# Altium schematic symbol library MuhammetLib.SchLib: 392 symbols (part 4 of 4)
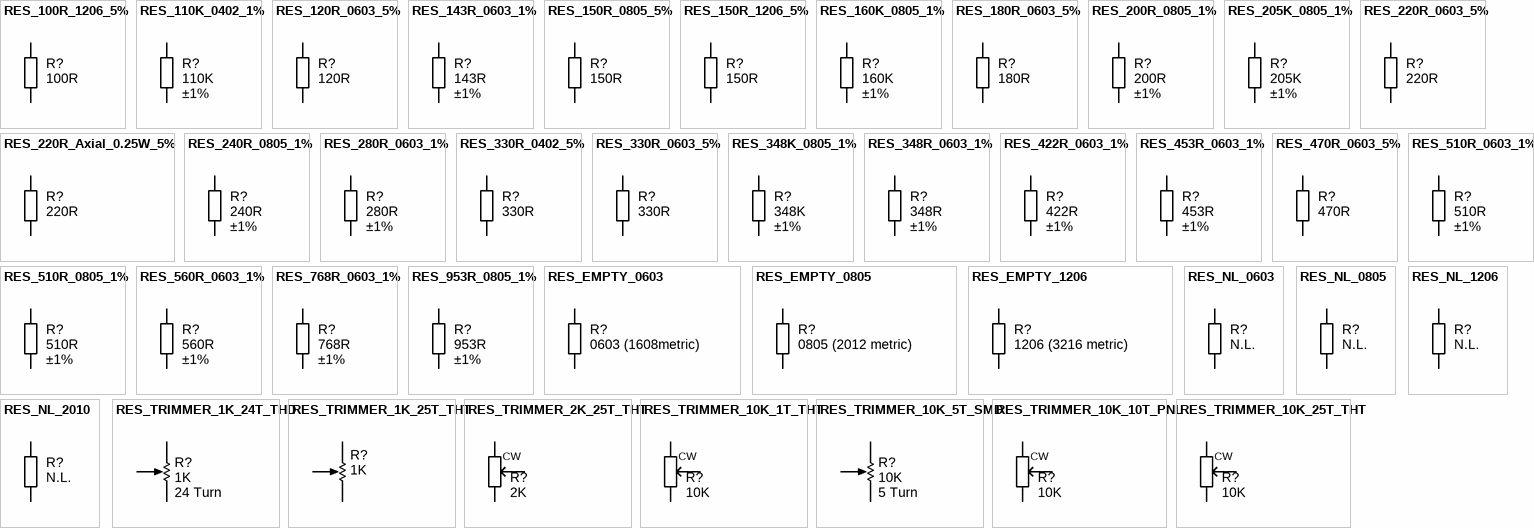
[diagram p15: symbols RES_100R_1206_5% to RES_TRIMMER_10K_25T_THT]

## RES_150R_0805_5%
designator R?, comment value 150R  (hidden comment: Thick Film)
Resistor SMD chip 150 Ohm 0.125W 5% 0805; Manufacturer 1: Vishay/Dale; Manufacturer Part Number 1: CRCW0805150RJNEA; Ratings: 1/8W; Tolerance: ±5%; Package / Case: 0805 (2012 metric); Supplier 1: Digi-Key; Supplier Part Number 1: 541-150ACT-ND
footprint RESC2012N (Chip Resistor, Body 2.0x1.2mm, IPC Medium Density)
pins: 1, 2

## RES_150R_1206_5%
designator R?, comment value 150R  (hidden comment: Thin Film)
Resistor SMD chip 150 Ohm 0.25W 5% 1206; Manufacturer 1: Yageo; Manufacturer Part Number 1: RC1206JR-07150RL; Ratings: 1/4 W; Package / Case: 1206 (3216 Metric); Tolerance: ±5%; Material: Thin Film; Supplier 1: Digi-Key; Supplier Part Number 1: 311-150ERCT-ND; ComponentLink1URL: http://www.yageo.com/documents/recent/PYu-RC1206_51_RoHS_L_4.pdf; ComponentLink1Description: http://www.yageo.com/documents/recent/PYu-RC1206_51_RoHS_L_4.pdf
footprint RESC3216N (Chip Resistor, Body 3.2x1.6mm, 1206, IPC Medium Density)
pins: 1, 2

## RES_160K_0805_1%
designator R?, comment value 160K  Tolerance: ±1%  (hidden comment: Thick Film)
Resistor SMD chip 160k Ohm 0.125W 1% 0805; Manufacturer 1: Vishay/Dale; Manufacturer Part Number 1: CRCW0805160KFKEA; Ratings: 1/8W; Package / Case: 0805 (2012 metric); Supplier 1: Digi-Key; Supplier Part Number 1: 541-160KCCT-ND
footprint RESC2012N (Chip Resistor, Body 2.0x1.2mm, 0805, IPC Medium Density)
pins: 1, 2

## RES_180R_0603_5%
designator R?, comment value 180R  (hidden comment: Thick Film)
Resistor SMD chip 180 Ohm 0.1W 5% 0603; Manufacturer 1: Yageo; Manufacturer Part Number 1: RC0603JR-07180RL; Ratings: 1/10 W; Package / Case: 0603 (1608 metric); Tolerance: ±5%; Material: Thick Film; Supplier 1: Digi-Key; Supplier Part Number 1: 311-180GRCT-ND
footprint RESC1608N (Chip Resistor, Body 1.6x0.8mm, IPC Medium Density)
pins: 1, 2

## RES_200R_0805_1%
designator R?, comment value 200R  Tolerance: ±1%  (hidden comment: Thick Film)
Resistor SMD chip 200 Ohm 0.125W 1% 0805; Manufacturer 1: Vishay/Dale; Manufacturer Part Number 1: CRCW0805200RFKEA; Ratings: 1/8W; Package / Case: 0805 (2012 metric); Supplier 1: Digi-Key; Supplier Part Number 1: 541-200CCT-ND
footprint RESC2012N (Chip Resistor, Body 2.0x1.2mm, 0805, IPC Medium Density)
pins: 1, 2

## RES_205K_0805_1%
designator R?, comment value 205K  Tolerance: ±1%  (hidden comment: Thick Film)
Resistor SMD chip 205k Ohm 0.125W 1% 0805; Manufacturer 1: Vishay/Dale; Manufacturer Part Number 1: CRCW0805205KFKEA; Ratings: 1/8W; Package / Case: 0805 (2012 metric); Supplier 1: Digi-Key; Supplier Part Number 1: 541-205KCCT-ND
footprint RESC2012N (Chip Resistor, Body 2.0x1.2mm, 0805, IPC Medium Density)
pins: 1, 2

## RES_220R_0603_5%
designator R?, comment value 220R  (hidden comment: Thick Film)
Resistor SMD chip 220 Ohm 0.1W 5% 0603; Manufacturer 1: Yageo; Manufacturer Part Number 1: RC0603JR-07220RL; Ratings: 1/10 W; Manufacturer 2: Royal Ohm; Manufacturer Part Number 2: 0603WAJ0221; Package / Case: 0603 (1608 metric); Tolerance: ±5%; Material: Thick Film; Supplier 1: Digi-Key; Supplier Part Number 1: 311-220GRCT-ND
footprint RESC1608N (Chip Resistor, Body 1.6x0.8mm, IPC Medium Density)
pins: 1, 2

## RES_220R_Axial_0.25W_5%
designator R?, comment value 220R  (hidden comment: Carbon Film)
Resistor THD Axial 220 Ohm 0.25W 5% Carbon Film; Manufacturer 1: Yageo; Manufacturer Part Number 1: CFR-25JB-220R; Ratings: 1/4W; Tolerance: ±5%; Package / Case: Axial; Supplier 1: Digi-Key; Supplier Part Number 1: 220QBK-ND
footprint RESTH_AXIAL-0.4
pins: 1, 2

## RES_240R_0805_1%
designator R?, comment value 240R  Tolerance: ±1%  (hidden comment: Thick Film)
Resistor SMD chip 240 Ohm 0.125W 1% 0805; Manufacturer 1: Vishay/Dale; Manufacturer Part Number 1: CRCW0805240RFKEA; Ratings: 1/8W; Supplier 1: Digi-Key; Supplier Part Number 1: 541-240CCT-ND; Package / Case: 0805 (2012 metric); Material: Thick Film
footprint RESC2012N (Chip Resistor, Body 2.0x1.2mm, IPC Medium Density)
pins: 1, 2

## RES_280R_0603_1%
designator R?, comment Tolerance: ±1%  (hidden comment: 280R)
Resistor SMD chip 280 Ohm 0.1W 1% 0603; Manufacturer 1: Yageo; Manufacturer Part Number 1: RC0603FR-07280RL; Ratings: 1/10W; Package / Case: 0603 (1608 Metric); Supplier 1: Digi-Key; Supplier Part Number 1: 311-280HRCT-ND; Value: 280R
footprint RESC1608N (Chip Resistor, Body 1.6x0.8mm, 0603, IPC Medium Density)
pins: 1, 2

## RES_330R_0402_5%
designator R?, comment value 330R  (hidden comment: Thick Film)
Resistor SMD chip 330 Ohm 0.063W 5% 0402; Manufacturer 1: Yageo; Manufacturer Part Number 1: RC0402JR-07330RL; Ratings: 1/16 W; Package / Case: 0402 (1005 Metric); Tolerance: ±5%; Supplier 1: Digi-Key; Supplier Part Number 1: 311-330JRCT-ND; ComponentLink1URL: http://www.yageo.com/documents/recent/PYu-RC0402_51_RoHS_L_6.pdf; ComponentLink1Description: http://www.yageo.com/documents/recent/PYu-RC0402_51_RoHS_L_6.pdf
footprint RESC1005N (Chip Resistor, Body 1.0x0.5mm, EIA 0402, IPC Medium Density)
pins: 1, 2

## RES_330R_0603_5%
designator R?, comment value 330R  (hidden comment: Thick Film)
Resistor SMD chip 330 Ohm 0.1W 5% 0603; Manufacturer 1: Vishay Dale; Manufacturer Part Number 1: CRCW0603330RJNEA; Ratings: 1/10 W; Manufacturer 2: Yageo; Manufacturer Part Number 2: RC0603JR-07330RL; Package / Case: 0603 (1608 metric); Tolerance: ±5%; Material: Thick Film; Supplier 1: Digi-Key; Supplier Part Number 1: 541-330GCT-ND; ComponentLink1URL: http://www.vishay.com/doc?20035; ComponentLink1Description: http://www.vishay.com/doc?20035; Supplier 2: Digi-Key; Supplier Part Number 2: 311-330GRCT-ND; ComponentLink2URL: http://www.yageo.com/documents/recent/PYu-RC0603_51_RoHS_L_4.pdf; ComponentLink2Description: http://www.yageo.com/documents/recent/PYu-RC0603_51_RoHS_L_4.pdf
footprint RESC1608N (Chip Resistor, Body 1.6x0.8mm, IPC Medium Density)
pins: 1, 2

## RES_348K_0805_1%
designator R?, comment value 348K  Tolerance: ±1%  (hidden comment: Thick Film)
Resistor SMD chip 348k Ohm 0.125W 1% 0805; Manufacturer 1: Vishay/Dale; Manufacturer Part Number 1: CRCW0805348KFKEA; Ratings: 1/8W; Package / Case: 0805 (2012 metric); Supplier 1: Digi-Key; Supplier Part Number 1: 541-348KCCT-ND
footprint RESC2012N (Chip Resistor, Body 2.0x1.2mm, IPC Medium Density)
pins: 1, 2

## RES_348R_0603_1%
designator R?, comment value 348R  Tolerance: ±1%  (hidden comment: Thin Film)
Resistor SMD chip 348 Ohm 0.1W 1% 0603; Manufacturer 1: Yageo; Manufacturer Part Number 1: RC0603FR-07348RL; Ratings: 1/10 W; Package / Case: 0603 (1608 metric); Material: Thin Film; Supplier 1: Digi-Key; Supplier Part Number 1: 311-348HRCT-ND
footprint RESC1608N (Chip Resistor, Body 1.6x0.8mm, 0603, IPC Medium Density)
pins: 1, 2

## RES_422R_0603_1%
designator R?, comment value 422R  Tolerance: ±1%  (hidden comment: Thick Film)
Resistor SMD chip 422 Ohm 0.1W 1% 0603; Manufacturer 1: Yageo; Manufacturer Part Number 1: RC0603FR-07422RL; Ratings: 1/10W; Package / Case: 0603 (1608 Metric); Supplier 1: Digi-Key; Supplier Part Number 1: 311-422HRCT-ND
footprint RESC1608N (Chip Resistor, Body 1.6x0.8mm, 0603, IPC Medium Density)
pins: 1, 2

## RES_453R_0603_1%
designator R?, comment value 453R  Tolerance: ±1%  (hidden comment: Thin Film)
Resistor SMD chip 453 Ohm 0.1W 1% 0603; Manufacturer 1: Yageo; Manufacturer Part Number 1: RC0603FR-07453RL; Ratings: 1/10 W; Package / Case: 0603 (1608 metric); Material: Thin Film; Supplier 1: Digi-Key; Supplier Part Number 1: 311-453HRCT-ND
footprint RESC1608N (Chip Resistor, Body 1.6x0.8mm, 0603, IPC Medium Density)
pins: 1, 2

## RES_470R_0603_5%
designator R?, comment value 470R  (hidden comment: Thick Film)
Resistor SMD chip 470 Ohm 0.1W 5% 0603; Manufacturer 1: Vishay/Dale; Manufacturer Part Number 1: CRCW0603470RJNEA; Ratings: 1/10 W; Package / Case: 0603 (1608 metric); Tolerance: ±5%; Material: Thick Film; Supplier 1: Digi-Key; Supplier Part Number 1: 541-470GCT-ND
footprint RESC1608N (Chip Resistor, Body 1.6x0.8mm, IPC Medium Density)
pins: 1, 2

## RES_510R_0603_1%
designator R?, comment value 510R  Tolerance: ±1%  (hidden comment: Thick Film)
Resistor SMD chip 510 Ohm 0.1W 1% 0603; Manufacturer 1: Yageo; Manufacturer Part Number 1: RC0603FR-07510RL; Ratings: 1/10 W; Package / Case: 0603 (1608 Metric); Material: Thick Film; Supplier 1: Digi-Key; Supplier Part Number 1: 311-510HRCT-ND
footprint RESC1608N (Chip Resistor, Body 1.6x0.8mm, 0603, IPC Medium Density)
pins: 1, 2

## RES_510R_0805_1%
designator R?, comment value 510R  Tolerance: ±1%  (hidden comment: Thick Film)
Resistor SMD chip 510 Ohm 0.125W 1% 0805; Manufacturer 1: Yageo; Manufacturer Part Number 1: RC0805FR-07510RL; Ratings: 1/8 W; Package / Case: 0805 (2012 Metric); Material: Thick Film; Supplier 1: Digi-Key; Supplier Part Number 1: 311-510CRCT-ND
footprint RESC2012N (Chip Resistor, Body 2.0x1.2mm, 0805, IPC Medium Density)
pins: 1, 2

## RES_560R_0603_1%
designator R?, comment Tolerance: ±1%  (hidden comment: 560R)
Resistor SMD chip 560 Ohm 0.1W 1% 0603; Manufacturer 1: Yageo; Manufacturer Part Number 1: RC0603FR-07560RL; Ratings: 1/10W; Package / Case: 0603 (1608 Metric); Supplier 1: Digi-Key; Supplier Part Number 1: 311-560HRCT-ND; Value: 560R
footprint RESC1608N (Chip Resistor, Body 1.6x0.8mm, 0603, IPC Medium Density)
pins: 1, 2

## RES_768R_0603_1%
designator R?, comment value 768R  Tolerance: ±1%  (hidden comment: Thick Film)
Resistor SMD chip 768 Ohm 0.1W 1% 0603; Manufacturer 1: Yageo; Manufacturer Part Number 1: RC0603FR-07768RL; Ratings: 1/10W; Package / Case: 0603 (1608 Metric); Supplier 1: Digi-Key; Supplier Part Number 1: 311-768HRCT-ND
footprint RESC1608N (Chip Resistor, Body 1.6x0.8mm, 0603, IPC Medium Density)
pins: 1, 2

## RES_953R_0805_1%
designator R?, comment value 953R  Tolerance: ±1%  (hidden comment: Thick Film)
Resistor SMD chip 953 Ohm 0.125W 1% 0805; Manufacturer 1: Vishay/Dale; Manufacturer Part Number 1: CRCW0805953RFKEA; Ratings: 1/8W; Package / Case: 0805 (2012 metric); Supplier 1: Digi-Key; Supplier Part Number 1: 541-953CCT-ND
footprint RESC2012N (Chip Resistor, Body 2.0x1.2mm, IPC Medium Density)
pins: 1, 2

## RES_EMPTY_0603
designator R?  Package / Case: 0603 (1608metric)  (hidden comment: *)
Resistor, 08603 SMD, Empty footprint; Value: N/A
footprint RESC1608N (Chip Resistor, Body 1.6x0.8mm, 0603, IPC Medium Density)
pins: 1, 2

## RES_EMPTY_0805
designator R?  Package / Case: 0805 (2012 metric)  (hidden comment: *)
Resistor, 0805 SMD, Empty footprint; Value: N/A
footprint RESC2012N (Chip Resistor, Body 2.0x1.2mm, IPC Medium Density)
pins: 1, 2

## RES_EMPTY_1206
designator R?  Package / Case: 1206 (3216 metric)  (hidden comment: *)
Resistor, 1206 SMD, Empty footprint; Value: N/A
footprint RESC3216N (Chip Resistor, Body 3.2x1.6mm, IPC Medium Density)
pins: 1, 2

## RES_NL_0603
designator R?  value N.L.  (hidden comment: *)  (no BOM)
Resistor, SMD chip; Manufacturer 1: Royal Ohm; Ratings: 1/10 W; Tolerance: ±5%; Package / Case: 0603 (1608 metric)
footprint RESC1608N (Chip Resistor, Body 1.6x0.8mm, 0603, IPC Medium Density)
pins: 1, 2

## RES_NL_0805
designator R?  value N.L.  (hidden comment: *)  (no BOM)
Resistor, SMD chip; Manufacturer 1: Royal Ohm; Ratings: 1/10 W; Tolerance: ±5%; Package / Case: 0805 (2012 metric)
footprint RESC2012N (Chip Resistor, Body 2.0x1.2mm, 0805, IPC Medium Density)
pins: 1, 2

## RES_NL_1206
designator R?  value N.L.  (hidden comment: *)  (no BOM)
Resistor, SMD chip; Manufacturer 1: Royal Ohm; Ratings: 1/10 W; Tolerance: ±5%; Package / Case: 1206 (3216 metric)
footprint RESC3216N (Chip Resistor, Body 3.2x1.6mm, 1206, IPC Medium Density)
pins: 1, 2

## RES_NL_2010
designator R?  value N.L.  (hidden comment: *)  (no BOM)
Resistor, SMD chip; Manufacturer 1: Royal Ohm; Ratings: 1/10 W; Tolerance: ±5%; Package / Case: 2010 (5025 metric)
footprint RESC5025N (Chip Resistor, Body 5.0x2.5mm, 2010, IPC Medium Density)
pins: 1, 2

## RES_TRIMMER_1K_24T_THD
designator R?, comment 24 Turn  value 1K
Trimmer, 24-Turn, 1K; Manufacturer 1: VISHAY SPECTROL; Manufacturer Part Number 1: 64Y-102; Tolerance: 10%; Ratings: 24 turn variable cermet; Supplier 1: Newark; Supplier Part Number 1: 99K0122
footprint VishaySpectrol_64Y (VISHAY SPECTROL - 64Y - TRIMMER)
pins: 1 CCW, 2 TAP, 3 CW

## RES_TRIMMER_1K_25T_THT
designator R?, comment value 1K  (hidden comment: 25 Turn)
Trimmer, 25-Turn, 1K cermet; Manufacturer 1: Murata Electronics North America; Manufacturer Part Number 1: PV36Y102C01B00; Tolerance: 10%; Ratings: 25 turn variable cermet; Supplier 1: Digi-Key; Supplier Part Number 1: 490-2912-ND
footprint TrimPot_THT_2.54mm pitch (TRIMMER, MURATA, PV36Y)
pins: 1 CCW, 2 TAP, 3 CW

## RES_TRIMMER_2K_25T_THT
designator R?, comment value 2K  (hidden comment: 25 turns)
Trimmer THD 2K 500mW 25-turn; Manufacturer 1: Murata Electronics North America; Manufacturer Part Number 1: PV36X202C01B00; Tolerance: ±10%; Ratings: 1/2W; ±100ppm/°C; Material: Cermet; Package / Case: 10.9mm L x 5.0mm W x 10.0mm H; Supplier 1: Digi-Key; Supplier Part Number 1: 490-2899-ND
footprint TrimPot_THT_PV36X (TRIMMER, MURATA, PV36X)
pins: CCW 1, CW 3, W 2

## RES_TRIMMER_10K_1T_THT
designator R?, comment value 10K  (hidden comment: Single-turn pot)
Trimmer THD 10K 200mW Single-turn; Manufacturer 1: Bourns Inc.; Manufacturer Part Number 1: 3306F-1-103; Tolerance: ±25%; Ratings: 1/5W; Supplier 1: Digi-Key; Supplier Part Number 1: 3306F-103-ND; Material: Cermet; Package / Case: 8.10mm L x 6.81mm W x 7.62mm H
footprint POT_3306F
pins: CCW 1, CW 3, W 2

## RES_TRIMMER_10K_5T_SMD
designator R?, comment 5 Turn  value 10K
Trimmer SMD 10K 250mW 5-turn Side-adjust; Manufacturer 1: Bourns Inc.; Manufacturer Part Number 1: 3214G-1-103E; Tolerance: 10%; Ratings: 5 turn variable cermet; Number of Turns: 5; Supplier 1: Digi-Key; Supplier Part Number 1: 3214G-1-103ECT-ND
footprint TrimPot_SMD_Bourns_3214G (Bourns- 3214G - TRIMMER)
pins: 1 CCW, 2 WIPER, 3 CW

## RES_TRIMMER_10K_10T_PNL
designator R?, comment value 10K  (hidden comment: 10 turns)  (mechanical)
Trimmer panel mount 10K 2W 10-turn; Manufacturer: Bourns Inc.; Manufacturer Part Number: 3590S-2-103L; Tolerance: ±5%; Ratings: 2W; ±50ppm/°C; Material: Wirewound; Supplier 1: Digi-Key; Supplier Part Number 1: 3590S-2-103L-ND; ComponentLink1URL: http://www.bourns.com/data/global/pdfs/3590.pdf; ComponentLink1Description: 3590 Series Datasheet; Package / Case: Round - 0.875" Dia x 0.732" L (22.22mm x 18.60mm)
pins: 1 CCW, 2 W, 3 CW

## RES_TRIMMER_10K_25T_THT
designator R?, comment value 10K  (hidden comment: 25 turns)
Trimmer THD 10K 500mW 25-turn; Manufacturer 1: Murata Electronics North America; Manufacturer Part Number 1: PV36X103C01B00; Tolerance: ±10%; Ratings: 1/2W; ±100ppm/°C; Material: Cermet; Package / Case: 10.9mm L x 5.0mm W x 10.0mm H; Supplier 1: Digi-Key; Supplier Part Number 1: 490-2894-ND
footprint TRIMPOT_THT_PV36X (TRIMMER, MURATA, PV36X)
pins: CCW 1, CW 3, W 2

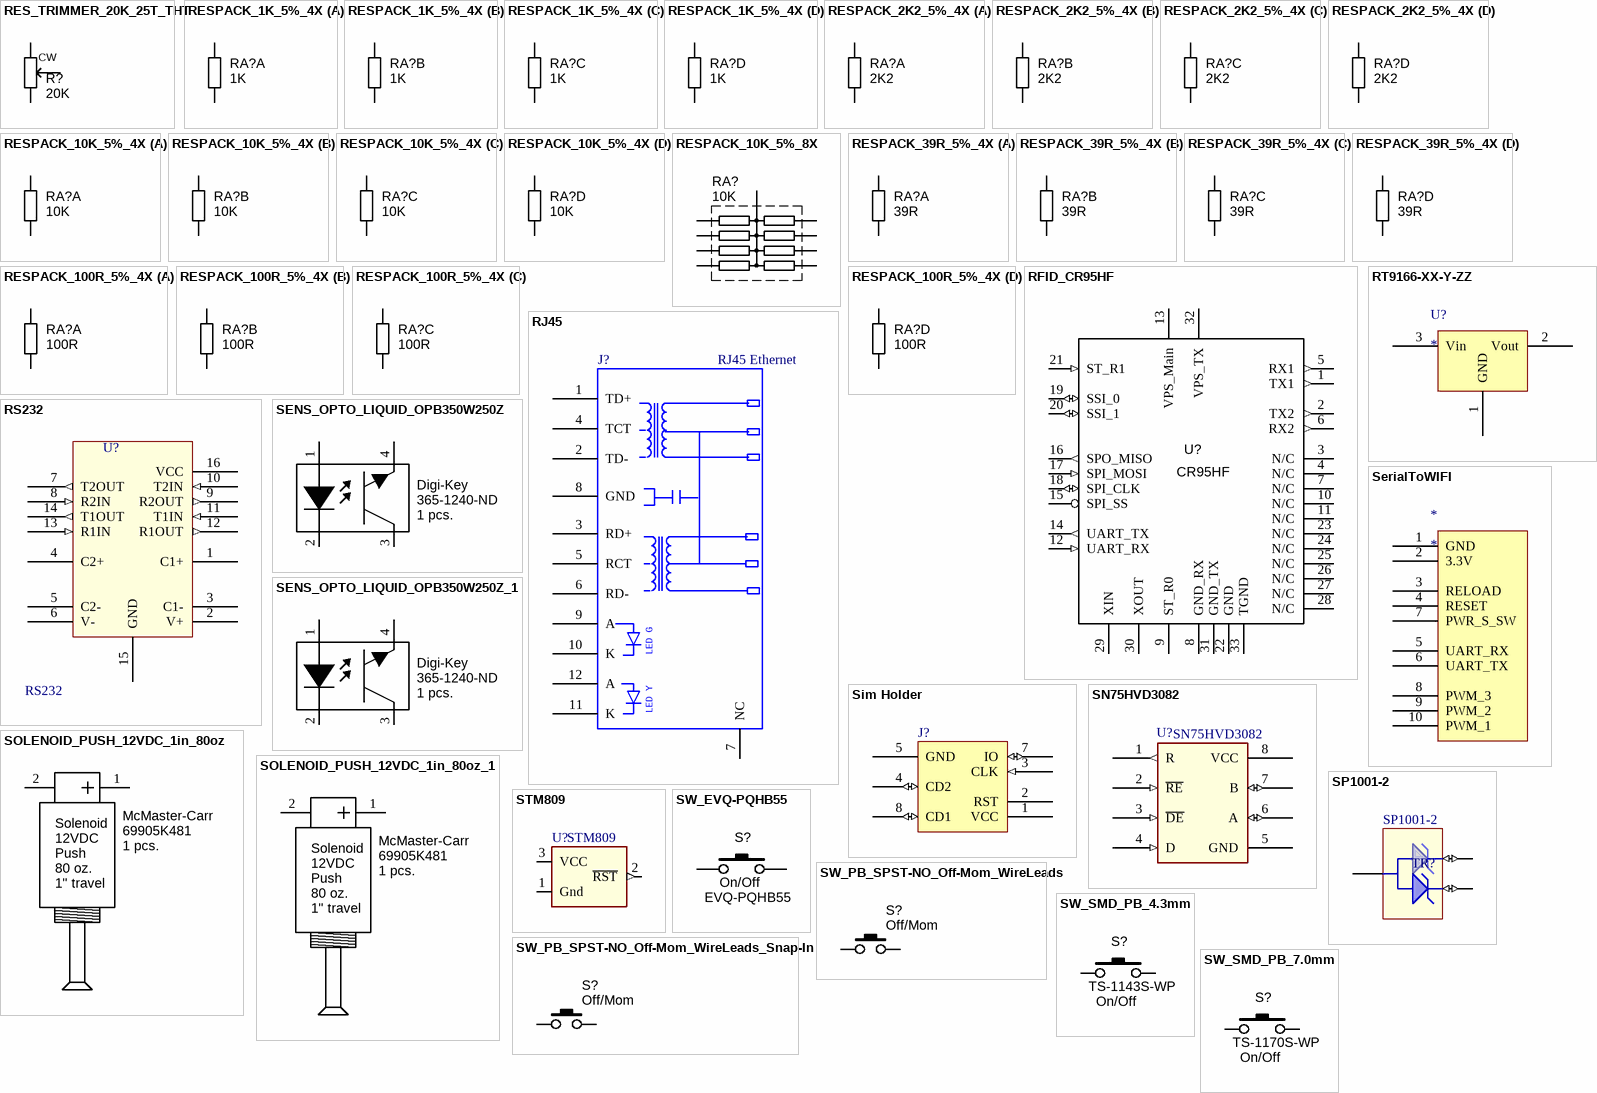
[diagram p10: symbols RES_TRIMMER_20K_25T_THT to SW_SMD_PB_7.0mm]

## RES_TRIMMER_20K_25T_THT
designator R?, comment value 20K  (hidden comment: 25 turns)
Trimmer THD 20K 500mW 25-turn; Manufacturer 1: Murata Electronics North America; Manufacturer Part Number 1: PV36X203C01B00; Tolerance: ±10%; Ratings: 1/2W; ±100ppm/°C; Material: Cermet; Package / Case: 10.9mm L x 5.0mm W x 10.0mm H; Supplier 1: Digi-Key; Supplier Part Number 1: 490-2900-ND
footprint TrimPot_THT_PV36X (TRIMMER, MURATA, PV36X)
pins: CCW 1, CW 3, W 2

## RESPACK_1K_5%_4X
designator RA?, comment value 1K  (hidden comment: Thick Film)
Resistor array 1K Ohm 4-pack 62.5mW 5% 1608 SMD; Manufacturer 1: Yageo; Manufacturer Part Number 1: YC164-JR-071KL; Ratings: 1/16 W; Number of Resistors: 4; Circuit Type: Isolated; Package / Case: 1206 (3216 Metric), Convex; Tolerance: ±5%; Number of Pins: 8; Power Per Element: 62.5mW; Mounting Type: Surface Mount; Supplier Device Package: 4 x 0603; Operating Temperature: -55°C ~ 155°C; ComponentLink1URL: http://www.yageo.com/documents/recent/PYu-YC_TC164_51_RoHS_L_3.pdf; ComponentLink1Description: http://www.yageo.com/documents/recent/PYu-YC_TC164_51_RoHS_L_3.pdf; Supplier 1: Digi-Key; Supplier Part Number 1: YC164J-1.0KCT-ND; Applications: -
footprint RESCAXS50P160X320X70-8N (Resistor Pack, Body 1.6x3.2mm, 4x0603, IPC Medium Density)
part A pins: 1, 8
part B pins: 2, 7
part C pins: 3, 6
part D pins: 4, 5

## RESPACK_2K2_5%_4X
designator RA?, comment value 2K2  (hidden comment: Thick Film)
Resistor array 2.2K Ohm 4-pack 62.5mW 5% 1608 SMD; Manufacturer 1: Yageo; Manufacturer Part Number 1: YC164-JR-072K2L; Ratings: 1/16 W; Number of Resistors: 4; Circuit Type: Isolated; Package / Case: 1206 (3216 Metric), Convex; Tolerance: ±5%; Supplier 1: Digi-Key; Supplier Part Number 1: YC164J-2.2KCT-ND; Number of Pins: 8; Power Per Element: 62.5mW; Mounting Type: Surface Mount; Supplier Device Package: 4 x 0603; Operating Temperature: -55°C ~ 155°C; ComponentLink1URL: http://www.yageo.com/documents/recent/PYu-YC_TC164_51_RoHS_L_3.pdf; ComponentLink1Description: http://www.yageo.com/documents/recent/PYu-YC_TC164_51_RoHS_L_3.pdf
footprint RESCAXS50P160X320X70-8N (Resistor Pack, Body 1.6x3.2mm, 4x0603, IPC Medium Density)
part A pins: 1, 8
part B pins: 2, 7
part C pins: 3, 6
part D pins: 4, 5

## RESPACK_10K_5%_4X
designator RA?, comment value 10K  (hidden comment: Thick Film)
Resistor array 10K Ohm 4-pack 62.5mW 5% 1608 SMD; Manufacturer 1: Vishay Dale; Manufacturer Part Number 1: CRA06S08310K0JTA; Ratings: 1/16 W; Number of Resistors: 4; Circuit Type: Isolated; Package / Case: 1206 (3216 Metric), Convex; Tolerance: ±5%; Number of Pins: 8; Power Per Element: 62.5mW; Mounting Type: Surface Mount; Supplier Device Package: 4 x 0603; Operating Temperature: -55°C ~ 155°C; Manufacturer 2: Yageo; Manufacturer Part Number 2: YC164-JR-0710KL; Supplier 1: Digi-Key; Supplier Part Number 1: CRA6S810KCT-ND; ComponentLink1URL: http://www.vishay.com/doc?31002; ComponentLink1Description: http://www.vishay.com/doc?31002; Supplier 2: Digi-Key; Supplier Part Number 2: YC164J-10KCT-ND; ComponentLink2URL: http://www.yageo.com/documents/recent/PYu-YC_TC164_51_RoHS_L_3.pdf; ComponentLink2Description: http://www.yageo.com/documents/recent/PYu-YC_TC164_51_RoHS_L_3.pdf
footprint RESCAXS50P160X320X70-8N (Resistor Pack, Body 1.6x3.2mm, 4x0603, IPC Medium Density)
part A pins: 1, 8
part B pins: 2, 7
part C pins: 3, 6
part D pins: 4, 5

## RESPACK_10K_5%_8X
designator RA?, comment value 10K  (hidden comment: Thick Film)
Resistor array 10K Ohm 8-pack 62.5mW 5% 1608 SMD; Manufacturer 1: Panasonic - ECG; Manufacturer Part Number 1: EXB-E10C103J; Ratings: 1/16 W; Number of Resistors: 8; Package / Case: 1608 (4021 Metric), Concave; Tolerance: ±5%; Supplier 1: Digi-Key; Supplier Part Number 1: U8103CT-ND
footprint RESP4021N8X (Resistor Pack, Body 4.0x2.1mm, 8 elements bussed, IPC Medium Density)
pins: 1 COM, 2, 3, 4, 5, 6 COM, 7, 8, 9, 10

## RESPACK_39R_5%_4X
designator RA?, comment value 39R  (hidden comment: Thick Film)
Resistor array 39 Ohm 4-pack 62.5mW 5% 1206 SMD; Manufacturer 1: Vishay Dale; Manufacturer Part Number 1: CRA06S08339R0JTA; Ratings: 1/16 W; Number of Resistors: 4; Circuit Type: Isolated; Parameter Name: ±200ppm/°C; Package / Case: 1206 (3216 Metric), Convex; Tolerance: ±5%; Number of Pins: 8; Power Per Element: 62.5mW; Mounting Type: Surface Mount; Supplier Device Package: 4 x 0603; Operating Temperature: -55°C ~ 155°C; Manufacturer Part Number 2: YC164-JR-0739RL; Manufacturer 2: Yageo; Supplier 1: Digi-Key; Supplier Part Number 1: CRA6S839CT-ND; ComponentLink1URL: http://www.vishay.com/doc?31002; ComponentLink1Description: http://www.vishay.com/doc?31002; Supplier 2: Digi-Key; Supplier Part Number 2: YC164J-39CT-ND; ComponentLink2URL: http://www.yageo.com/documents/recent/PYu-YC_TC164_51_RoHS_L_3.pdf; ComponentLink2Description: http://www.yageo.com/documents/recent/PYu-YC_TC164_51_RoHS_L_3.pdf
footprint RESCAXS50P160X320X70-8N (Resistor Pack, Body 1.6x3.2mm, 4x0603, IPC Medium Density)
part A pins: 1, 8
part B pins: 2, 7
part C pins: 3, 6
part D pins: 4, 5

## RESPACK_100R_5%_4X
designator RA?, comment value 100R  (hidden comment: Thick Film)
Resistor array 100 Ohm 4-pack 62.5mW 5% 1206 SMD; Manufacturer 1: Vishay Dale; Manufacturer Part Number 1: CRA06S083100RJTA; Ratings: 1/16 W; Number of Resistors: 4; Circuit Type: Isolated; Parameter Name: ±200ppm/°C; Package / Case: 1206 (3216 Metric), Convex; Tolerance: ±5%; Number of Pins: 8; Power Per Element: 62.5mW; Mounting Type: Surface Mount; Supplier Device Package: 4 x 0603; Operating Temperature: -55°C ~ 155°C; Manufacturer 2: Yageo; Manufacturer Part Number 2: YC164-JR-07100RL; Supplier 1: Digi-Key; Supplier Part Number 1: CRA6S8100CT-ND; ComponentLink1URL: http://www.vishay.com/doc?31002; ComponentLink1Description: http://www.vishay.com/doc?31002; Supplier 2: Digi-Key; Supplier Part Number 2: YC164J-100CT-ND; ComponentLink2URL: http://www.yageo.com/documents/recent/PYu-YC_TC164_51_RoHS_L_3.pdf; ComponentLink2Description: http://www.yageo.com/documents/recent/PYu-YC_TC164_51_RoHS_L_3.pdf
footprint RESCAXS50P160X320X70-8N (Resistor Pack, Body 1.6x3.2mm, 4x0603, IPC Medium Density)
part A pins: 1, 8
part B pins: 2, 7
part C pins: 3, 6
part D pins: 4, 5

## RFID_CR95HF
designator U?, comment CR95HF
IC RFID Reader 13.56MHz CR95HF; Manufacturer 1: STmicro; Manufacturer Part Number 1: CR95HF; Package/Case: VFQFPN32 5x5 mm; Cost: 1.20; Supplier 1: STMicroelectronics; Supplier Part Number 1: CR95HF
footprint QFN50P500X500X100-33N (QFN, 32-Leads with exposed die pad, Body 5.2x5.2mm (max), Pitch 0.50mm, IPC Medium Density)
pins: 1 TX1 (out), 2 TX2 (out), 3 N/C, 4 N/C, 5 RX1 (out), 6 RX2 (out), 7 N/C, 8 GND_RX (power), 9 ST_R0, 10 N/C, 11 N/C, 12 UART_RX (in), 13 VPS_Main (power), 14 UART_TX (out), 15 SPI_SS, 16 SPO_MISO (out), 17 SPI_MOSI (in), 18 SPI_CLK (io), 19 SSI_0 (io), 20 SSI_1 (io), 21 ST_R1 (in), 22 GND (power), 23 N/C, 24 N/C, 25 N/C, 26 N/C, 27 N/C, 28 N/C, 29 XIN (power), 30 XOUT, 31 GND_TX (power), 32 VPS_TX (power), 33 TGND (power) "Thermal Pad"

## RJ45
designator J?, comment RJ45 Ethernet
Trafolu Ethernet Konektörü; Value: RJ45 Ethernet
footprint RJ45_Magnets (Chip Resistor, Body 3.1x1.6mm, IPC High Density)
pins: 1 TD+, 2 TD-, 3 RD+, 4 TCT, 5 RCT, 6 RD-, 7 NC, 8 GND, 9 A, 10 K, 11 K, 12 A
text: LED G; LED Y

## RS232
designator U?
Dual RS232 Driver/Receiver; ComponentLink2Description: SMD; Value: RS232
footprint SOIC16 (SOIC, 16-Leads, Body 10,0x4,0mm (max), Pitch 1,27mm, IPC Low Density)
pins: 1 C1+, 2 V+ (power), 3 C1-, 4 C2+, 5 C2-, 6 V- (power), 7 T2OUT (out), 8 R2IN (in), 9 R2OUT (out), 10 T2IN (in), 11 T1IN (in), 12 R1OUT (out), 13 R1IN (in), 14 T1OUT (out), 15 GND (power), 16 VCC (power)

## RT9166-XX-Y-ZZ
designator U?
xx: 3v3; yy: G; zz: VL
footprint sot23-3 (SOT23, 3 pin)
pins: 1 GND (power), 2 Vout (power), 3 Vin (power)

## SENS_OPTO_LIQUID_OPB350W250Z
designator X?, comment 1 pcs.  Supplier 1: Digi-Key  Supplier Part Number 1: 365-1240-ND  (mechanical)
Sensor, Photointerrupter, Liquid, 0.250"; Manufacturer 1: TT Electronics/Optek Technology; Manufacturer Part Number 1: OPB350W250Z; Wire Gauge: 26 AWG
pins: 1, 2, 3, 4

## SENS_OPTO_LIQUID_OPB350W250Z_1
designator X?, comment 1 pcs.  Supplier 1: Digi-Key  Supplier Part Number 1: 365-1240-ND  (mechanical)
Sensor, Photointerrupter, Liquid, 0.250"; Manufacturer 1: TT Electronics/Optek Technology; Manufacturer Part Number 1: OPB350W250Z; Wire Gauge: 26 AWG
pins: 1, 2, 3, 4

## SerialToWIFI
designator *
footprint SerialToWIFI
pins: 1 GND, 2 3.3V, 3 RELOAD, 4 RESET, 5 UART_RX, 6 UART_TX, 7 PWR_S_SW, 8 PWM_3, 9 PWM_2, 10 PWM_1

## Sim Holder
designator J?  (value not drawn)
pins: 1 VCC (power), 2 RST (power), 3 CLK (in), 4 CD2 (io), 5 GND (power), 7 IO (io), 8 CD1 (io)

## SN75HVD3082
designator U?
RS485 Tranciever; Producer: Texas; ComponentLink2Description: SMD; Value: SN75HVD3082
footprint SOIC8 (SOIC, 8-Leads, Body 5,0x4,0mm (max), Pitch 1,27mm, IPC Low Density)
pins: 1 R (out), 2 ~{RE} (in), 3 ~{DE} (in), 4 D (in), 5 GND (power), 6 A (io), 7 B (io), 8 VCC (power)

## SOLENOID_PUSH_12VDC_1in_80oz
designator X?, comment 1 pcs.  Supplier 1: McMaster-Carr  Supplier Part Number 1: 69905K481  (mechanical)
Solenoid, Linear, Continuous, 12VDC, Push, 1" @ 5 lbs.; PriceOverride: 24.86; Manufacturer 1: McMaster-Carr; Manufacturer Part Number 1: 69905K481
pins: 1, 2
text: Solenoid; 12VDC; Push; 80 oz.; 1" travel

## SOLENOID_PUSH_12VDC_1in_80oz_1
designator X?, comment 1 pcs.  Supplier 1: McMaster-Carr  Supplier Part Number 1: 69905K481  (mechanical)
Solenoid, Linear, Continuous, 12VDC, Push, 1" @ 5 lbs.; PriceOverride: 24.86; Manufacturer 1: McMaster-Carr; Manufacturer Part Number 1: 69905K481
pins: 1, 2
text: Solenoid; 12VDC; Push; 80 oz.; 1" travel

## SP1001-2
designator TR?
TVS Array; Producer: Littel Fuse; ComponentLink2Description: SMD; Value: SP1001-2
footprint SC70-3 (SC70-3, 3-Leads, Body 2,3x2,4mm (max), Pitch 0,66mm, IPC Low Density)
pins: 1 (io), 2 (io), 3 (power)

## STM809
designator U?
Reset Circuit, STM809; ComponentLink2Description: SMD; Value: STM809
footprint SOT23-3 (SOT23, 3-Leads, Body 3,0x2,5mm (max), Pitch 0,95mm, IPC Low Density)
pins: 1 Gnd (power), 2 ~{RST} (out), 3 VCC

## SW_EVQ-PQHB55
designator S?  Manufacturer Part Number 1: EVQ-PQHB55  Function: On/Off  (hidden comment: *)
SWITCH TACTILE SPST-NO 0.02A 15V; Manufacturer 1: Panasonic - ECG; Ratings: 1.6 Newton; Switch Function: Off-Mom; Contact Rating @ Voltage: 0.02A @ 15VDC; Outline: 4.50mm x 4.50mm; Operating Force: 160gf; Package / Case: per dwg; Supplier 1: Digi-Key; Supplier Part Number 1: P8090SCT-ND; Mounting Type: Surface Mount; Orientation: Vertical; ComponentLink1URL: http://industrial.panasonic.com/www-data/pdf/ATK0000/ATK0000CE1.pdf; ComponentLink1Description: http://industrial.panasonic.com/www-data/pdf/ATK0000/ATK0000CE1.pdf
footprint SWITCH_TACT-EVQPQxB55 (Panasonic SMD tact switch 4.5x4.5x0.55mm, EVQPQxB55)
pins: 1, 2

## SW_PB_SPST-NO_Off-Mom_WireLeads
designator S?, comment Function: Off/Mom  (hidden comment: OFF-MOM)
Switch wire leads momentary SPST; Manufacturer 1: Judco Manufacturing Inc; Manufacturer Part Number 1: 40-2390-00; Package / Case: Panel-mount with wire leads; Supplier 1: Digi-Key; Supplier Part Number 1: 506PB-ND
footprint SWITCH_DPDT_RA_7201K2A (DPDT Switch Right-angle PCB mount - C&K 7201K2A)
pins: 1, 2

## SW_PB_SPST-NO_Off-Mom_WireLeads_Snap-In
designator S?, comment Function: Off/Mom  (hidden comment: OFF-MOM)  (mechanical)
Switch momentary SPST panel mount with wire leads; Manufacturer 1: C&K Components; Manufacturer Part Number 1: AP4E200SWBE; Package / Case: Panel-mount with wire leads; Supplier 1: Digi-Key; Supplier Part Number 1: CKN9979-ND
footprint HDR_1x2_Generic (Connector Header, Single-row 2-position, 0.200" pitch)
pins: 1, 2

## SW_SMD_PB_4.3mm
designator S?, comment TS-1143S-WP  Function: On/Off
Switch SMD Tact 4.3mm Stem; Manufacturer 1: Bond-Tact; Manufacturer Part Number 1: TS-1143S-WP-200; Package / Case: 6.5x6.5mm; 4.3mm stem
footprint TS-1143S (6.5x6.5mm SMD tact switch 4.3mm stem)
pins: 1, 2

## SW_SMD_PB_7.0mm
designator S?, comment TS-1170S-WP  Function: On/Off
Switch SMD Tact 7.0mm Stem; Manufacturer 1: Bond-Tact; Manufacturer Part Number 1: TS-1170S-WP-200; Package / Case: 6.5x6.5mm; 7.0mm stem
footprint TS-1170S (6.5x6.5mm SMD tact switch 7.0mm stem)
pins: 1, 2

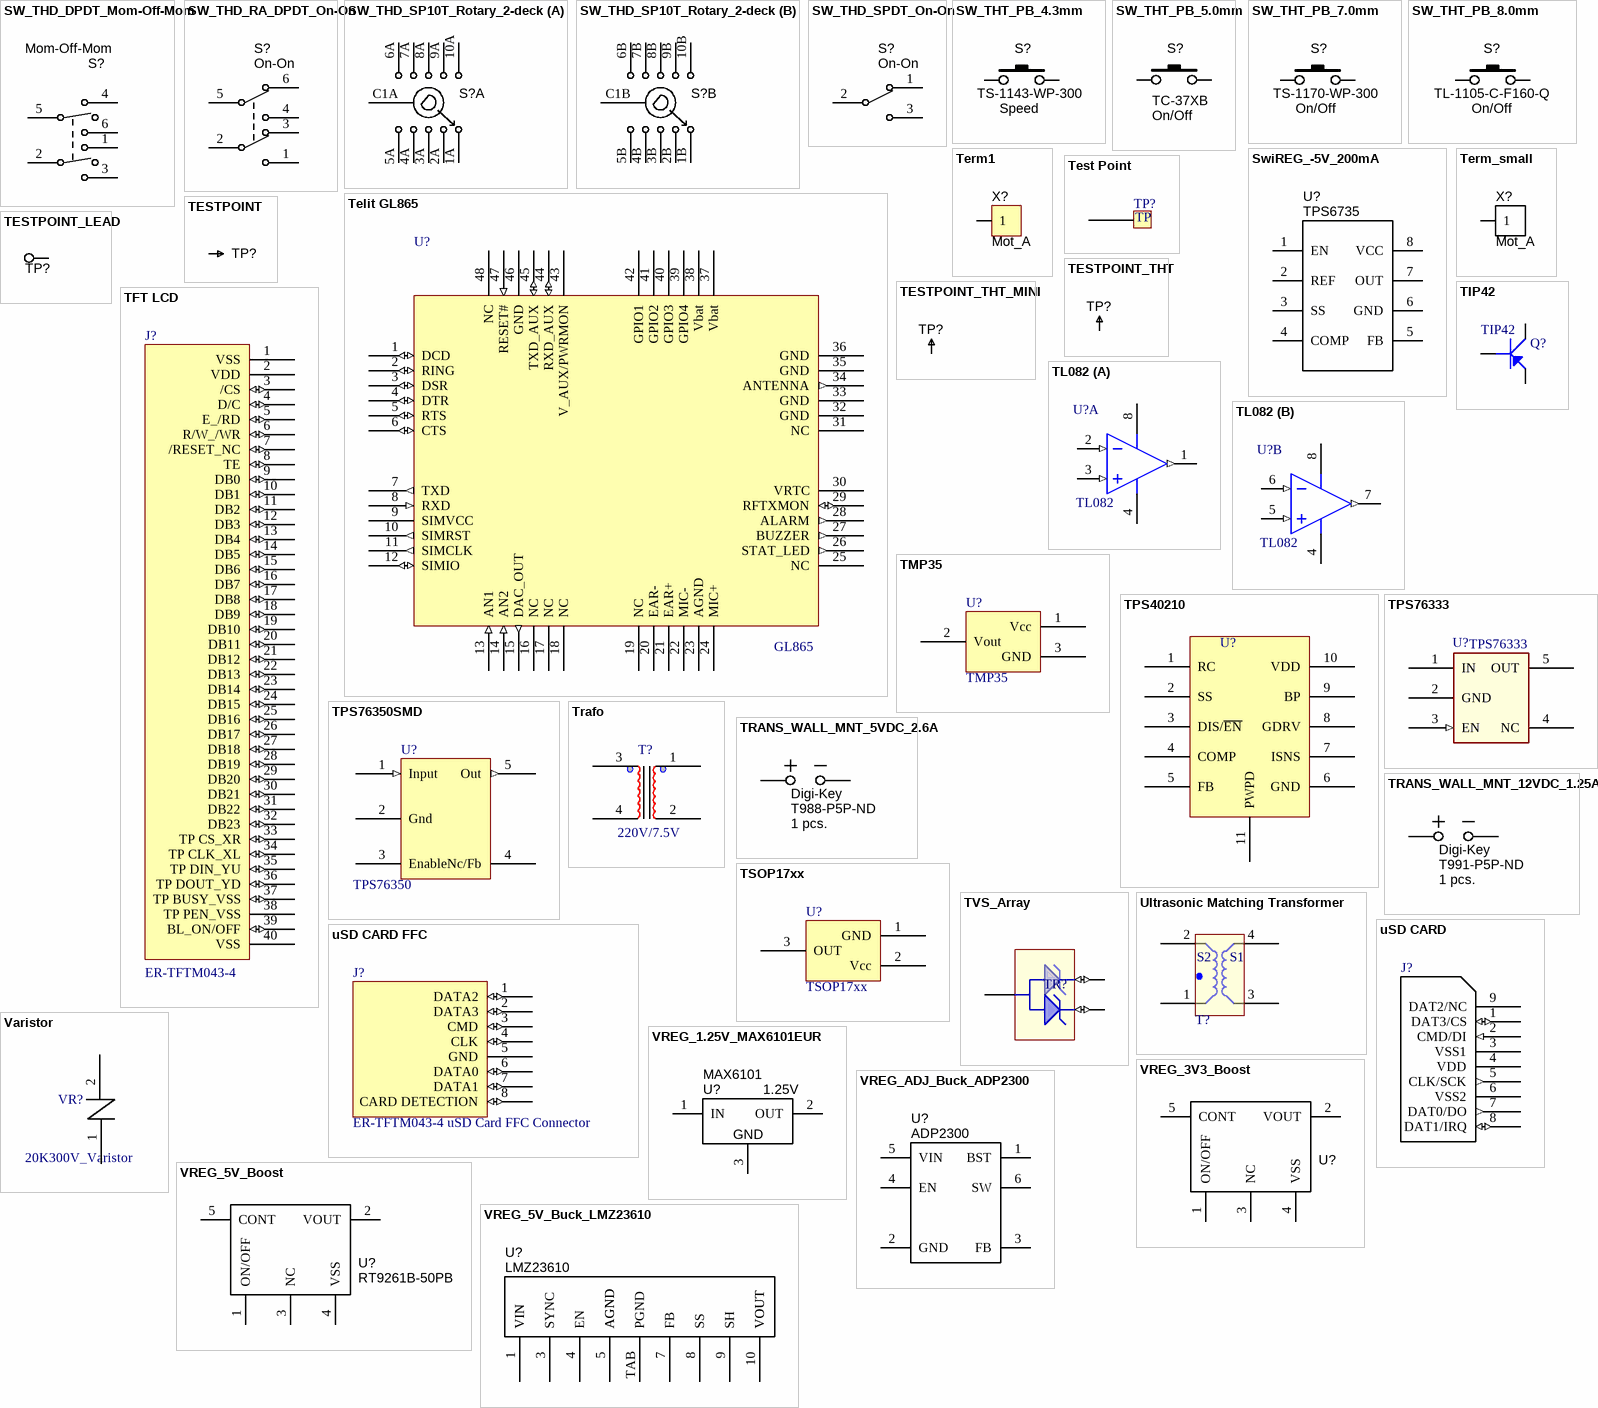
[diagram p11: symbols SW_THD_DPDT_Mom-Off-Mom to VREG_ADJ_Buck_ADP2300]

## SW_THD_DPDT_Mom-Off-Mom
designator S?, comment MOM-OFF-MOM
Switch THD toggle momentary DPDT; Manufacturer 1: NKK Switches; Manufacturer Part Number 1: M2T28SA5G03; Contact Rating @ Voltage: 0.4VA @ 28VAC/DC; Actuator Type: Standard Round; Actuator Length: 12.70mm; Illumination: Non-Illuminated; Package / Case: 6.5x6.5mm; 4.3mm stem; Supplier 1: Digi-Key; Supplier Part Number 1: M2T28SA5G03-ND; Circuit: DPDT; Mounting Type: Through Hole; ComponentLink1URL: http://www.nkkswitches.com/pdf/M2toggles.pdf; ComponentLink1Description: http://www.nkkswitches.com/pdf/M2toggles.pdf; Switch Function: Mom-Off-Mom
footprint SWITCH_DPDT_M2 (NKK M2 Series DPDT Switch with 03 pin option)
pins: 1, 2, 3, 4, 5, 6

## SW_THD_RA_DPDT_On-On
designator S?, comment ON-ON
Switch THD right-angle toggle DPDT; Manufacturer 1: C&K Components; Manufacturer Part Number 1: 7201K2AQE; Contact Rating @ Voltage: 5A @ 120VAC; Actuator Type: Locking Lever; Actuator Length: 17.88mm; Illumination: Non-Illuminated; Circuit: DPDT; Mounting Type: Panel Mount, Right Angle; Supplier 1: Digi-Key; Supplier Part Number 1: CKN9722-ND; Bushing Thread: 1/4-40; Switch Function: On-On
footprint SWITCH_DPDT_RA_7201K2A (DPDT Switch Right-angle PCB mount - C&K 7201K2A)
pins: 1, 2, 3, 4, 5, 6

## SW_THD_SP10T_Rotary_2-deck
designator S?, comment 10 pos. rotary 2-deck  (value not drawn)
Switch THD rotary SP10T 2-deck; Manufacturer: Grayhill Inc; Manufacturer Part Number: 71ADF36-02PAJN; Number of Decks: 2; Number of Poles per Deck: 1; Number of Positions: 2 ~ 10; Angle of Throw: 36°; Contact Rating @ Voltage: 0.25A @ 28VDC; Package / Case: 6.5x6.5mm; 4.3mm stem; Supplier 1: Digi-Key; Supplier Part Number 1: GH7332-ND; Orientation: Right Angle; Circuit per Deck: SP10T; Function: Rotary
footprint SWITCH_ROTARY_SP10T (Grayhill 71AF style 2-deck single pole 10-position rotary switch)
part A pins: 1A, 2A, 3A, 4A, 5A, 6A, 7A, 8A, 9A, 10A, C1A
part B pins: 1B, 2B, 3B, 4B, 5B, 6B, 7B, 8B, 9B, 10B, C1B

## SW_THD_SPDT_On-On
designator S?, comment ON-ON
Switch THD vertical toggle SPDT; Manufacturer 1: TE Connectivity; Manufacturer Part Number 1: SLS121PC04; Contact Rating @ Voltage: 0.25A @ 125VAC; Circuit: SPDT; Mounting Type: PCB mount; Supplier 1: Digi-Key; Supplier Part Number 1: 450-1598-ND; Switch Function: On-On
footprint SWITCH_SPDT_SLIDER (TE Connectivity SLS121PC04 SPDT slider)
pins: 1, 2, 3

## SW_THT_PB_4.3mm
designator S?  Manufacturer Part Number 1: TS-1143-WP-300  Function: Speed
Switch, tact, 4.3mm stem; Manufacturer 1: Bond-Tact; Package / Case: 6.5x6.5mm; 4.3mm stem; Material: Brass/Nylon/Ag plating
footprint TACT-SWITCH-TS1143 (Bondtact sealed TH tact switch)
pins: 1, 2

## SW_THT_PB_5.0mm
designator S?  Manufacturer Part Number 1: TC-37XB  Function: On/Off
Switch, tact, 5.0mm stem; Manufacturer 1: Wealth Metal; Package / Case: 6.5x6.5mm; 5.0mm stem; Material: Brass/Nylon/Ag plating
footprint TACT-SWITCH-TC-37XB (Wealth Metal sealed TH tact switch)
pins: 1, 2

## SW_THT_PB_7.0mm
designator S?  Manufacturer Part Number 1: TS-1170-WP-300  Function: On/Off
Switch, tact, 7.0mm stem; Manufacturer 1: Bond-Tact; Package / Case: 6.5x6.5mm; 7.0mm stem; Material: Brass/Nylon/Ag plating
footprint TACT-SWITCH-TS1170 (Bondtact sealed TH tact switch)
pins: 1, 2

## SW_THT_PB_8.0mm
designator S?  Manufacturer Part Number 1: TL-1105-C-F160-Q  Function: On/Off
Switch Tact THD 8.0mm Stem; Manufacturer 1: E-Switch; Package / Case: 6.0x6.0mm; 8.0mm stem; Material: Brass/Nylon/Ag plating
footprint TACT-SWITCH-TS1180 (E-Switch TL1105 series tact switch)
pins: 1, 2

## SwiREG_-5V_200mA
designator U?, comment TPS6735
IC REG 200mA -5V SOIC-8 SMD; Manufacturer 1: Texas Instruments; Manufacturer Part Number 1: TPS6735ID; Ratings: -5V @ 200mA; Output Type: Fixed; Voltage - Input: 4 V ~ 6.2 V; PWM Type: Current Mode; Frequency - Switching: 160kHz; Synchronous Rectifier: No; Supplier 1: Digi-Key; Supplier Part Number 1: 296-10982-5-ND; Type: Inverting; Voltage - Output: -5V; Operating Temperature: -40°C ~ 85°C; Supplier Device Package: 8-SOIC; ComponentLink1URL: http://www.ti.com/lit/ds/slvs141a/slvs141a.pdf; ComponentLink1Description: http://www.ti.com/lit/ds/slvs141a/slvs141a.pdf; Package / Case: 8-SOIC (0.154", 3.90mm Width)
footprint SOIC127P600X175-8AN (SOIC, 8-Leads, Body 4.9x3.9mm, Pitch 1.27mm, IPC Medium Density)
pins: 1 EN, 2 REF, 3 SS, 4 COMP, 5 FB, 6 GND, 7 OUT, 8 VCC

## Telit GL865
designator U?, comment GL865
GL865-DUAL is a dual band 900/1800 GSM/GPRS device in LCC castellation packaging with extremely low power consumption, extended temperature range and compact profile.; Producer: Telit; Value: GL865
pins: 1 DCD (io), 2 RING (io), 3 DSR (io), 4 DTR (io), 5 RTS (io), 6 CTS (io), 7 TXD (out), 8 RXD (in), 9 SIMVCC (power), 10 SIMRST (out), 11 SIMCLK (out), 12 SIMIO (io), 13 AN1 (in), 14 AN2 (in), 15 DAC_OUT (out), 16 NC, 17 NC, 18 NC, 19 NC, 20 EAR- (power), 21 EAR+ (power), 22 MIC- (power), 23 AGND (power), 24 MIC+ (power), 25 NC, 26 STAT_LED (out), 27 BUZZER (out), 28 ALARM (out), 29 RFTXMON (io), 30 VRTC (oe), 31 NC, 32 GND (power), 33 GND (power), 34 ANTENNA (out), 35 GND (power), 36 GND (power), 37 Vbat (power), 38 Vbat (power), 39 GPIO4 (power), 40 GPIO3 (power), 41 GPIO2 (power), 42 GPIO1 (power), 43 V_AUX/PWRMON (power), 44 RXD_AUX (io), 45 TXD_AUX (io), 46 GND (power), 47 RESET# (in), 48 NC

## Term1
designator X?, comment Mot_A  (no BOM)
footprint THP_D38_T75_B125 (Thru-Hole Pad with 75mil top and 125mil bottom annular rings)
pins: 1

## Term_small
designator X?, comment Mot_A  (no BOM)
footprint THP_D38_T75_B75 (Thru-Hole Pad with 75mil top and 75mil bottom annular rings)
pins: 1

## Test Point
designator TP?  (value not drawn)  (no BOM)
Custom Test Point
footprint TestPoint (Custom Test Point)
pins: 1
text: TP

## TESTPOINT
designator TP?  (value not drawn)  (no BOM)
SMD test pin
footprint TP-R60
footprint THP_D38_T75_B75 (Thru-Hole Pad with 75mil top and 75mil bottom annular rings)
pins: 1

## TESTPOINT_LEAD
designator TP?  (no BOM)
TEST POINT
footprint THP_D46_T80_B80 (Footprint not found)
pins: 1

## TESTPOINT_THT
designator TP?  (value not drawn)
Test Point PCB mount Multi-purpose Yellow; Manufacturer 1: Keystone Electronics; Manufacturer Part Number 1: 5014; Description 1: TEST POINT PC MULTI PURPOSE YEL; Supplier 1: Digi-Key; Supplier Part Number 1: 5014K-ND; Mounting Type: 0.063" (1.600mm) Hole Diameter; Material: Base, Nylon 46, UL 94V-0
footprint TP-THT-MULTI (Thru-hole test point loop)
pins: 1

## TESTPOINT_THT_MINI
designator TP?  (value not drawn)
Test Point PCB mount Miniature White; Manufacturer 1: Keystone Electronics; Manufacturer Part Number 1: 5002; Mounting Type: 0.040" (1.0mm) Hole Diameter; Material: Base, Nylon 46, UL 94V-0; Supplier 1: Digi-Key; Supplier Part Number 1: 5002K-ND
footprint TP-THT-MINI (Thru-hole test point loop)
pins: 1

## TFT LCD
designator J?, comment ER-TFTM043-4
4.3 inc TFT LCD Display Module with SSD1963 Controller; Producer: ER-TFTM043-4
footprint FPC-40 (40 way 1 pitch FPC Connector)
pins: 1 VSS (power), 2 VDD (power), 3 /CS (io), 4 D/C (io), 5 E_/RD (io), 6 R/W_/WR (io), 7 /RESET_NC (io), 8 TE (io), 9 DB0 (io), 10 DB1 (io), 11 DB2 (io), 12 DB3 (io), 13 DB4 (io), 14 DB5 (io), 15 DB6 (io), 16 DB7 (io), 17 DB8 (io), 18 DB9 (io), 19 DB10 (io), 20 DB11 (io), 21 DB12 (io), 22 DB13 (io), 23 DB14 (io), 24 DB15 (io), 25 DB16 (io), 26 DB17 (io), 27 DB18 (io), 28 DB19 (io), 29 DB20 (io), 30 DB21 (io), 31 DB22 (io), 32 DB23 (io), 33 TP CS_XR (io), 34 TP CLK_XL (io), 35 TP DIN_YU (io), 36 TP DOUT_YD (io), 37 TP BUSY_VSS (io), 38 TP PEN_VSS (power), 39 BL_ON/OFF (io), 40 VSS (power)

## TIP42
designator Q?
Transistor, TIP42; ComponentLink2Description: AXIAL; ComponentLink3Description: ETRTIP42; Value: TIP42
footprint TO220 - yatik
pins: 1 B, 2 C, 3 E

## TL082
designator U?
Dual Opamp; ComponentLink3Description: MUA08A Package Page; ComponentLink2Description: SMD; Value: TL082
footprint SOIC8 (SOIC, 8-Leads, Body 5,0x4,0mm (max), Pitch 1,27mm, IPC Low Density)
pins on every part: 4 V- (power), 8 V+ (power)
part A pins: 1 OUTA (out), 2 INA- (in), 3 INA+ (in)
part B pins: 5 INB+ (in), 6 INB- (in), 7 OUTB (out)

## TMP35
designator U?
Low Voltage Temperature Sensor; Value: TMP35; ComponentLink2Description: AX; ComponentLink3Description: *
footprint HDR3 (Connector; Header; 3 Position)
pins: 1 Vcc, 2 Vout, 3 GND

## TPS40210
designator U?  (value not drawn)
Value: TPS40210
footprint MSOP-Power Pad
pins: 1 RC, 2 SS, 3 DIS/~{EN}, 4 COMP, 5 FB, 6 GND, 7 ISNS, 8 GDRV, 9 BP, 10 VDD, 11 PWPD

## TPS76333
designator U?
3V3 LDO; Producer: Texas Inst.; ComponentLink2Description: SMD; Value: TPS76333
footprint SOT23-5 (SOT23, 5-Leads, Body 3,0x3,0mm (max), Pitch 0,95mm, IPC Low Density)
pins: 1 IN (power), 2 GND (power), 3 EN (in), 4 NC, 5 OUT (power)

## TPS76350SMD
designator U?, comment TPS76350
5V LDO; ComponentLink2Description: SMD; Value: TPS76350
footprint SOT23-5 (SOT23, 5-Leads, Body 3,0x3,0mm (max), Pitch 0,95mm, IPC Low Density)
pins: 1 Input (in) "INPUT", 2 Gnd (power), 3 Enable, 4 Nc/Fb, 5 Out (out) "out"

## Trafo
designator T?, comment 220V/7.5V
220V/7.5V Trafo; ComponentLink2Description: AX; Value: 220V/7.5V
footprint EI30/15,5
pins: 1, 2, 3, 4

## TRANS_WALL_MNT_5VDC_2.6A
designator PSU?, comment 1 pcs.  Supplier 1: Digi-Key  Supplier Part Number 1: T988-P5P-ND  (mechanical)
Transformer, Wall-Mount, 5VDC; Manufacturer 1: CUI Inc; Manufacturer Part Number 1: EPS050260UH-P5P-SZ; Ratings: 2.6A; 15W; Value: 5VDC

## TRANS_WALL_MNT_12VDC_1.25A
designator PSU?, comment 1 pcs.  Supplier 1: Digi-Key  Supplier Part Number 1: T991-P5P-ND  (mechanical)
Transformer, Wall-Mount, 12VDC; Manufacturer 1: CUI Inc; Manufacturer Part Number 1: EPS120125UH-P5P-SZ; Ratings: 1.25A; 15W; Value: 12VDC

## TSOP17xx
designator U?
IR Receiver; Value: TSOP17xx; ComponentLink2Description: AX; ComponentLink3Description: *
footprint TSOP17xx (TSOP17xx IR Reciever Footprint)
pins: 1 GND (power), 2 Vcc (power), 3 OUT

## TVS_Array
designator TR?
TVS Array; ComponentLink2Description: SMD
footprint SC70-3 (SC70-3, 3-Leads, Body 2,3x2,4mm (max), Pitch 0,66mm, IPC Low Density)
footprint SOT23-3 (SOT23, 3-Leads, Body 3,0x2,5mm (max), Pitch 0,95mm, IPC Low Density)
footprint SOT23-3_SC70-3 (SOT23, 3-Leads, Body 3,0x2,5mm (max), Pitch 0,95mm, IPC Low Density)
pins: 1 (io), 2 (io), 3 (power)

## Ultrasonic Matching Transformer
designator T?  (value not drawn)
Prowave Matching Transformer; Value: *
footprint Ultrasonic Transformer (Prowave Ultrasonic Transformer)
pins: 1, 2, 3, 4
text: S2; S1

## uSD CARD
designator J?  (value not drawn)
uSd Connector
pins: 1 DAT3/CS (io), 2 CMD/DI (in), 3 VSS1 (power), 4 VDD (power), 5 CLK/SCK (out), 6 VSS2 (power), 7 DAT0/DO (out), 8 DAT1/IRQ (io), 9 DAT2/NC

## uSD CARD FFC
designator J?, comment ER-TFTM043-4 uSD Card FFC Connector
ER-TFTM043-4 uSD Connector; Value: ER-TFTM043-4 uSD Card FFC Connector
pins: 1 DATA2 (io), 2 DATA3 (io), 3 CMD (io), 4 CLK (io), 5 GND (power), 6 DATA0 (io), 7 DATA1 (io), 8 CARD DETECTION (io)

## Varistor
designator VR?, comment 20K300V_Varistor
Varistor; ComponentLink2Description: AX; Value: 20K300V_Varistor
footprint Varistor
pins: 1, 2

## VREG_1.25V_MAX6101EUR
designator U?, comment MAX6101  value 1.25V
Voltage Regulator 1.25V SOT23-3 SMD; Manufacturer 1: Maxim Integrated Products; Manufacturer Part Number 1: MAX6101EUR+T; Voltage Regulator Type: Adjustable Positive Linear; Tolerance: ±0.04%; Ratings: 40V in-out; 500mA; Package / Case: SOT23-3; Supplier 1: Digi-Key; Supplier Part Number 1: MAX6101EUR+TCT-ND
footprint SOT23-3 (SOT23, 3 pin)
pins: 1 IN (power), 2 OUT (power), 3 GND (power)

## VREG_3V3_Boost
designator U?  (value not drawn)
Regulator 3.3V Step-Up Converter; Manufacturer 1: Richtek USA Inc; Manufacturer Part Number 1: RT9261B-33GB; Ratings: 3.3V; 50mA; Output Type: Fixed; Voltage - Input: Up to 7V; PWM Type: VFM; Frequency - Switching: 190kHz; Current - Output: 50mA; Synchronous Rectifier: No; Package / Case: SOT-23-5; Type: Step-Up (Boost); Voltage - Output: 3.3V; Operating Temperature: -20°C ~ 85°C; ComponentLink1URL: http://www.richtek.com/download_ds.jsp?s=267; ComponentLink1Description: RT9261B-33GB Datasheet; Supplier Part Number 1: RT9261B-33GB-ND; Supplier 1: Digi-Key
footprint SOT23-5
pins: 1 ON/OFF, 2 VOUT, 3 NC, 4 VSS, 5 CONT

## VREG_5V_Boost
designator U?  Manufacturer Part Number 1: RT9261B-50PB  (hidden comment: *)
Regulator, VFM Step-Up DC/DC Converter; Manufacturer 1: Richtek; Ratings: 5V; Package / Case: SOT-23-5
footprint SOT23-5
pins: 1 ON/OFF, 2 VOUT, 3 NC, 4 VSS, 5 CONT

## VREG_5V_Buck_LMZ23610
designator U?, comment LMZ23610
Voltage Regulator 10A 5V TO-PMOD-11; Manufacturer 1: National Semiconductor (TI); Manufacturer Part Number 1: LMZ23610TZ/NOPB; Ratings: 6Vin; 50W; Tolerance: ±0.2%; Value: Variable; Supplier 1: Digi-Key; Supplier Part Number 1: LMZ23610TZ/NOPB-ND; ComponentLink1URL: http://www.ti.com/lit/ds/symlink/lmz23610.pdf; ComponentLink1Description: http://www.ti.com/lit/ds/symlink/lmz23610.pdf
footprint NATIONALSEMI-TZA11A (National Semi TZA11A package)
pins: 1 VIN, 2 VIN, 3 SYNC, 4 EN, 5 AGND, 6 AGND, 7 FB, 8 SS, 9 SH, 10 VOUT, 11 VOUT, TAB PGND

## VREG_ADJ_Buck_ADP2300
designator U?, comment ADP2300
Regulator adjustable switching step-down DC/DC converter; Manufacturer 1: Analog Devices Inc; Manufacturer Part Number 1: ADP2300AUJZ-R7; Ratings: Adj; 1.2A; Package / Case: SOT-23-6; Supplier 1: Digi-Key; Supplier Part Number 1: ADP2300AUJZ-R7CT-ND; ComponentLink1URL: http://www.analog.com/static/imported-files/data_sheets/ADP2300_2301.pdf; ComponentLink1Description: http://www.analog.com/static/imported-files/data_sheets/ADP2300_2301.pdf
footprint SOT23-6
pins: 1 BST, 2 GND, 3 FB, 4 EN, 5 VIN, 6 SW

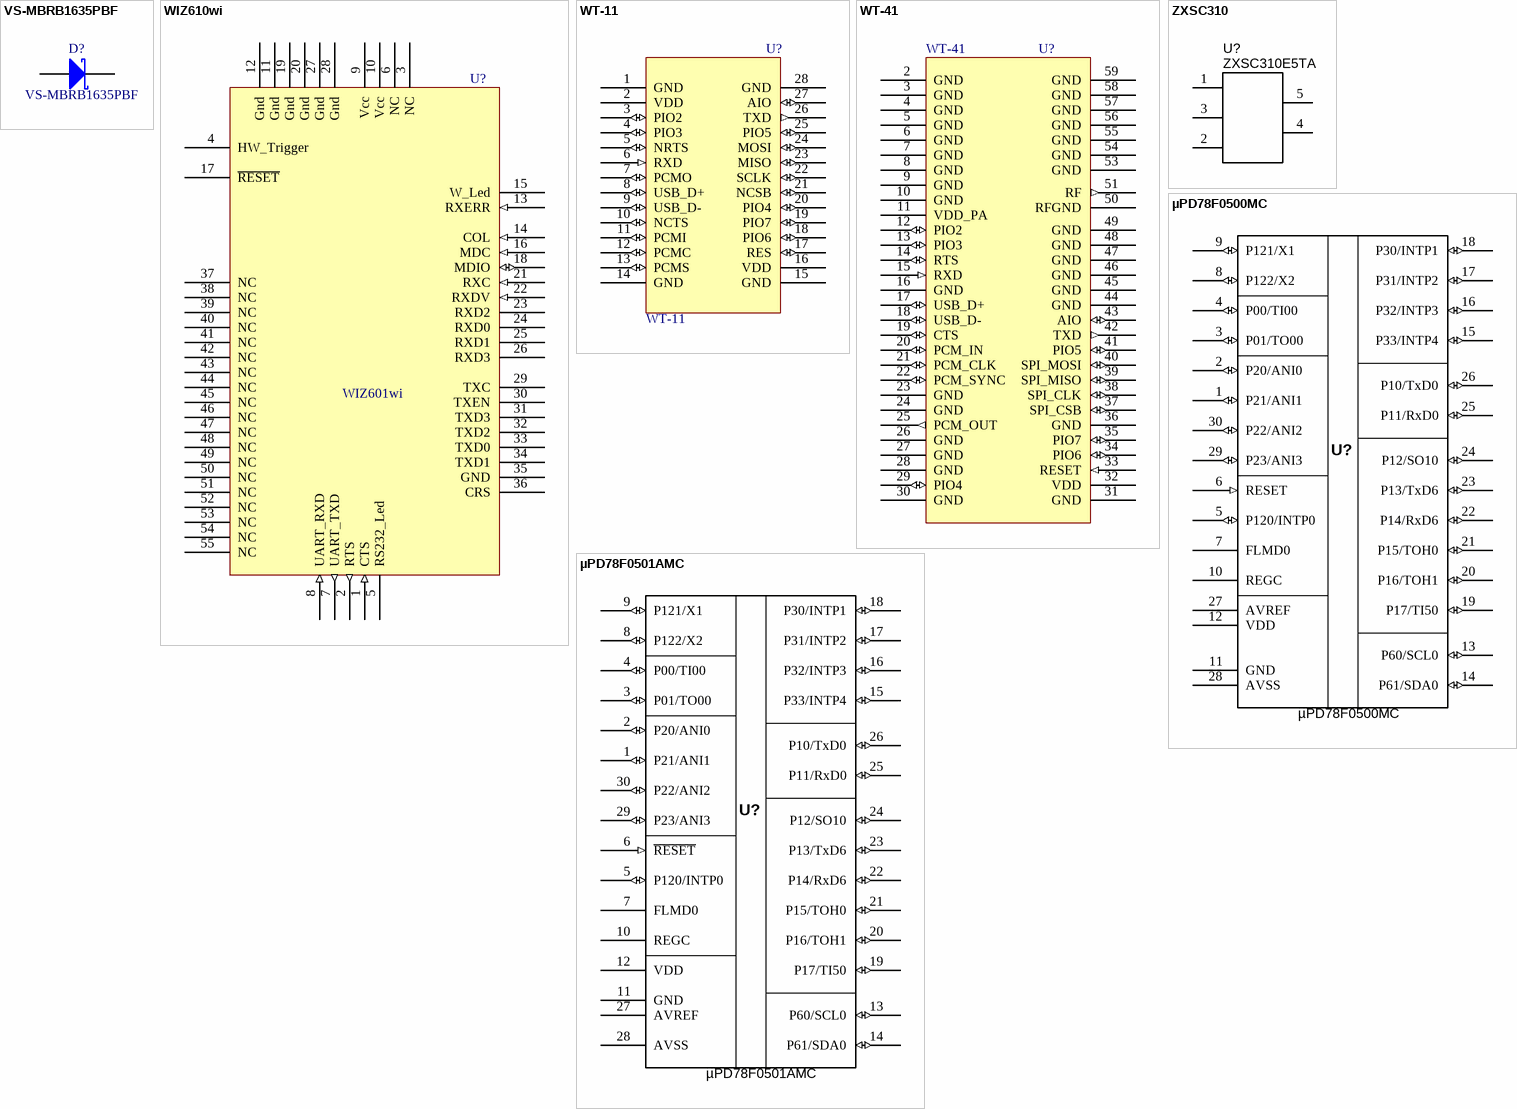
[diagram p12: symbols VS-MBRB1635PBF to µPD78F0501AMC]

## VS-MBRB1635PBF
designator D?
Schottky Diode,16a; ComponentLink2Description: SMD; Value: VS-MBRB1635PBF
signal-integrity model D Schottky
footprint DDPAK (TO-263-3, D²Pak (2 Leads + Tab), TO-263AB); pin to pad 1>2 2>3
pins: 1 A, 2 K

## WIZ610wi
designator U?, comment WIZ601wi
WızNet 610wi
footprint WızNet 610wi
pins: 1 CTS (in), 2 RTS (out), 3 NC, 4 HW_Trigger, 5 RS232_Led, 6 NC, 7 UART_TXD (out), 8 UART_RXD (in), 9 Vcc, 10 Vcc, 11 Gnd, 12 Gnd, 13 RXERR (in), 14 COL (in), 15 W_Led, 16 MDC (in), 17 ~{RESET}, 18 MDIO (io), 19 Gnd, 20 Gnd, 21 RXC (in), 22 RXDV (in), 23 RXD2, 24 RXD0, 25 RXD1, 26 RXD3, 27 Gnd, 28 Gnd, 29 TXC, 30 TXEN, 31 TXD3, 32 TXD2, 33 TXD0, 34 TXD1, 35 GND, 36 CRS, 37 NC, 38 NC, 39 NC, 40 NC, 41 NC, 42 NC, 43 NC, 44 NC, 45 NC, 46 NC, 47 NC, 48 NC, 49 NC, 50 NC, 51 NC, 52 NC, 53 NC, 54 NC, 55 NC

## WT-11
designator U?
Bluegiga WT-11 Bluetooth Module; Value: WT-11; ComponentLink2Description: SMD; ComponentLink3Description: ???
footprint WT-11 Footprint (Bluegiga WT-11 Footprint)
pins: 1 GND (power), 2 VDD, 3 PIO2 (io), 4 PIO3 (io), 5 NRTS (io), 6 RXD (in), 7 PCMO (io), 8 USB_D+ (io), 9 USB_D- (io), 10 NCTS (io), 11 PCMI (io), 12 PCMC (io), 13 PCMS (io), 14 GND (power), 15 GND (power), 16 VDD (power), 17 RES (io), 18 PIO6 (io), 19 PIO7 (io), 20 PIO4 (io), 21 NCSB (io), 22 SCLK (io), 23 MISO (io), 24 MOSI (io), 25 PIO5 (io), 26 TXD (out), 27 AIO (io), 28 GND (power)

## WT-41
designator U?
Bluegiga WT-41 High Power Bluetooth Module; Value: WT-41
footprint WT-41 Footprint (Bluegiga WT-41 Footprint)
pins: 2 GND (power), 3 GND (power), 4 GND (power), 5 GND (power), 6 GND (power), 7 GND (power), 8 GND (power), 9 GND (power), 10 GND (power), 11 VDD_PA (power), 12 PIO2 (io), 13 PIO3 (io), 14 RTS (io), 15 RXD (in), 16 GND (power), 17 USB_D+ (io), 18 USB_D- (io), 19 CTS (io), 20 PCM_IN (io), 21 PCM_CLK (io), 22 PCM_SYNC (io), 23 GND (power), 24 GND (power), 25 PCM_OUT (out), 26 GND (power), 27 GND (power), 28 GND (power), 29 PIO4 (io), 30 GND (power), 31 GND (power), 32 VDD (power), 33 RESET (in), 34 PIO6 (io), 35 PIO7 (io), 36 GND (power), 37 SPI_CSB (io), 38 SPI_CLK (io), 39 SPI_MISO (io), 40 SPI_MOSI (io), 41 PIO5 (io), 42 TXD (out), 43 AIO (io), 44 GND (power), 45 GND (power), 46 GND (power), 47 GND (power), 48 GND (power), 49 GND (power), 50 RFGND (power), 51 RF (out), 53 GND (power), 54 GND (power), 55 GND (power), 56 GND (power), 57 GND (power), 58 GND (power), 59 GND (power)

## ZXSC310
designator U?  Manufacturer Part Number 1: ZXSC310E5TA
LED Driver IC SMD SOT23-5; Manufacturer 1: Diodes/Zetex; Current - Output / Channel: 3.5mA; Ratings: 450 mW; Supplier 1: Digi-Key; Supplier Part Number 1: ZXSC310CT-ND; Package / Case: SOT-23-5
footprint SOT23-5
pins: 1 VCC, 2 GND, 3 STDN, 4 ISENSE, 5 VDRIVE

## µPD78F0500MC
designator U?
IC SMD NEC 8-Bit Single-Chip Microcontroller; Manufacturer Part Number 1: µPD78F0500MC-5A4-A; Manufacturer 1: NEC; Package / Case: SSOP-30; Material: Silicon
footprint SOP65P810X120-30N (SOP, 30-Leads, Body 9.8x6.2mm (max), Pitch 0.65mm, IPC Medium Density)
pins: 1 P21/ANI1 (io) "Analog input", 2 P20/ANI0 (io) "Analog input", 3 P01/TO00 (io), 4 P00/TI00 (io), 5 P120/INTP0 (io), 6 RESET (in) "Reset", 7 FLMD0, 8 P122/X2 (io) "Crystal oscillator", 9 P121/X1 (io) "Crystal oscillator", 10 REGC "Regulator capacitance", 11 GND (power) "Ground", 12 VDD (power) "Power supply", 13 P60/SCL0 (io), 14 P61/SDA0 (io), 15 P33/INTP4 (io), 16 P32/INTP3 (io), 17 P31/INTP2 (io), 18 P30/INTP1 (io), 19 P17/TI50 (io), 20 P16/TOH1 (io), 21 P15/TOH0 (io), 22 P14/RxD6 (io), 23 P13/TxD6 (io) "Transmit data", 24 P12/SO10 (io), 25 P11/RxD0 (io), 26 P10/TxD0 (io) "Transmit data", 27 AVREF (power) "Analog reference voltage", 28 AVSS (power) "Analog ground", 29 P23/ANI3 (io) "Analog input", 30 P22/ANI2 (io) "Analog input"

## µPD78F0501AMC
designator U?
IC SMD Renesas 8-Bit Single-Chip Microcontroller 16KB flash; Manufacturer 1: Renesas Electronics America/NEC; Manufacturer Part Number 1: UPD78F0501AMC-CAB-AX; Core Processor: 78K/0; Speed: 20MHz; Program Memory Size: 16KB (16K x 8); RAM Size: 768 x 8; Voltage - Supply (Vcc/Vdd): 1.8 V ~ 5.5 V; Package / Case: SSOP-30; Supplier 1: Digi-Key; Supplier Part Number 1: UPD78F0501AMC-CAB-AX-ND; Program Memory Type: FLASH; Operating Temperature: -40°C ~ 85°C; ComponentLink1URL: http://www2.renesas.com/maps_download/pdf/R01UH0008EJ0401_78K0Kx2.pdf; ComponentLink1Description: http://www2.renesas.com/maps_download/pdf/R01UH0008EJ0401_78K0Kx2.pdf
footprint SOP65P810X120-30N (SOP, 30-Leads, Body 9.8x6.2mm (max), Pitch 0.65mm, IPC Medium Density)
pins: 1 P21/ANI1 (io) "Analog input", 2 P20/ANI0 (io) "Analog input", 3 P01/TO00 (io), 4 P00/TI00 (io), 5 P120/INTP0 (io), 6 ~{RESET} (in) "Reset", 7 FLMD0, 8 P122/X2 (io) "Crystal oscillator", 9 P121/X1 (io) "Crystal oscillator", 10 REGC "Regulator capacitance", 11 GND (power) "Ground", 12 VDD (power) "Power supply", 13 P60/SCL0 (io), 14 P61/SDA0 (io), 15 P33/INTP4 (io), 16 P32/INTP3 (io), 17 P31/INTP2 (io), 18 P30/INTP1 (io), 19 P17/TI50 (io), 20 P16/TOH1 (io), 21 P15/TOH0 (io), 22 P14/RxD6 (io), 23 P13/TxD6 (io) "Transmit data", 24 P12/SO10 (io), 25 P11/RxD0 (io), 26 P10/TxD0 (io) "Transmit data", 27 AVREF (power) "Analog reference voltage", 28 AVSS (power) "Analog ground", 29 P23/ANI3 (io) "Analog input", 30 P22/ANI2 (io) "Analog input"